# Altium schematic symbol library sch.SchLib: 3 symbols
Pins are listed as number, name and electrical type; pins without a type are passive.

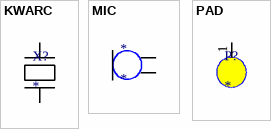
[diagram p0: symbols KWARC to PAD]

## KWARC
designator X?
footprint MIC
pins: 1 0, 2 1

## MIC
designator *
footprint MIC
pins: 1 0, 2 1

## PAD
designator P?
footprint PAD
pins: 1